# EAGLE library part MT29F1G01ABBFDWB-IT:FTR (library mbed-HDK-IC)
SPI FLASH NAND 1GB
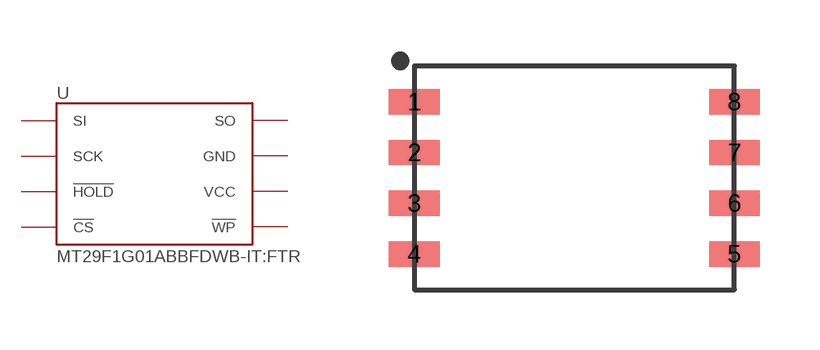
[diagram p28: symbol with the pads of 8-U-PDFN; footprint 8-U-PDFN]

Designator prefix U

## MT29F1G01ABBFDWB-IT:FTR (MF: Micron Technology Inc.; MFN: MT29F1G01ABBFDWB-IT:F TR; OC-DIGIKEY: 557-1655-1-ND)  [8-U-PDFN]
1  !CS
2  SO
3  !WP
4  GND
5  SI
6  SCK
7  !HOLD
8  VCC

## Footprint 8-U-PDFN (pad centres in mm)
smd 1.27 x 0.635: 1 0,3.81; 2 0,2.54; 3 0,1.27; 4 0,0; 5 8,0; 6 8,1.27; 7 8,2.54; 8 8,3.81